# Altium integrated library NSC Interface.IntLib: 1288 symbols (part 30 of 45)
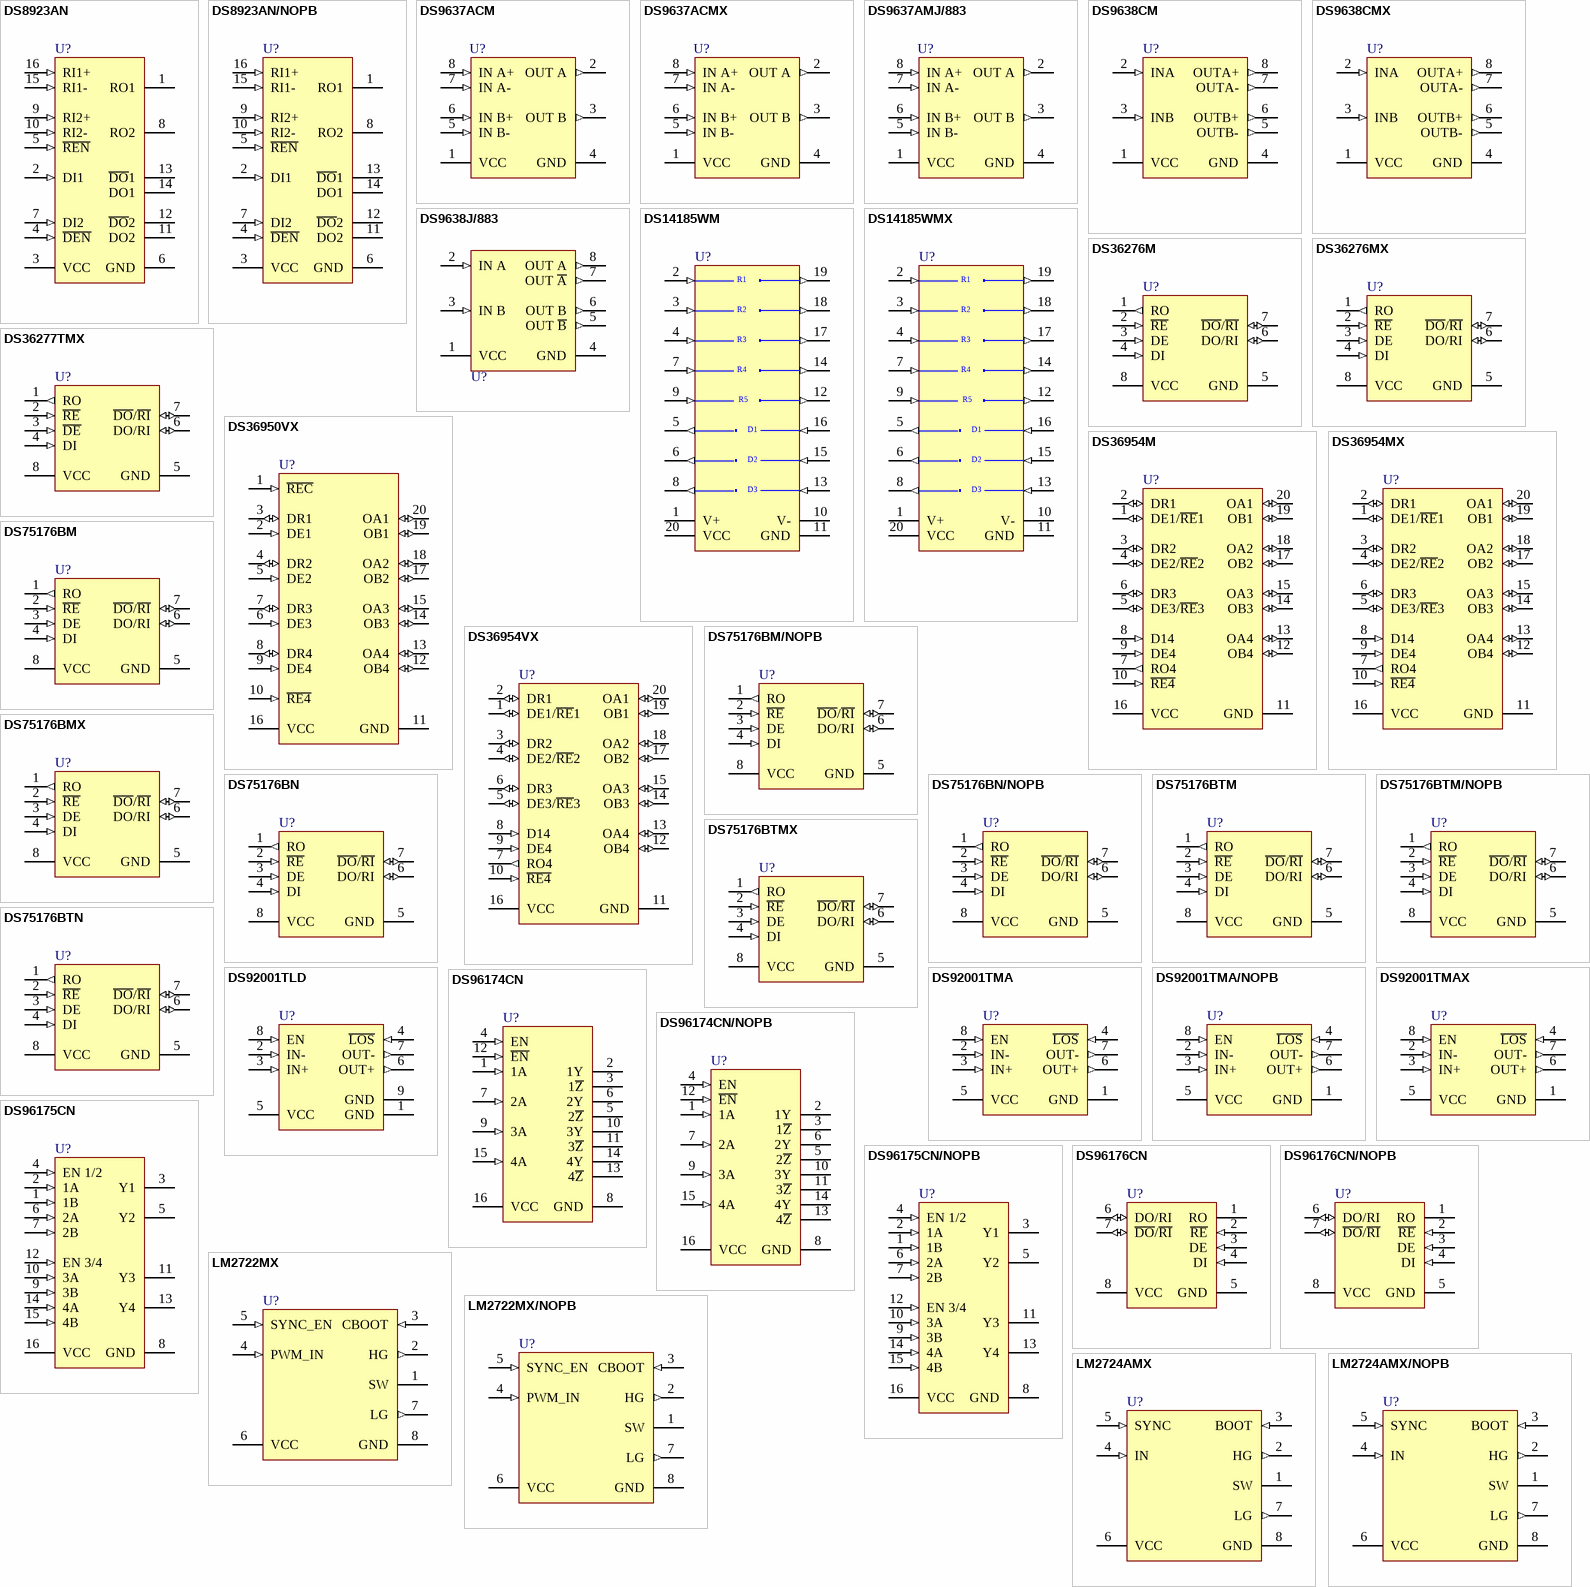
[diagram p141: symbols DS8923AN to LM2724AMX/NOPB]

## DS36954MX
designator U?
Quad Differential Bus Transceiver, 20-pin Wide SOIC; PartNumber: DS36954MX; Manufacturer: National Semiconductor; PackageTopMarking: NSUZXYTTE#*DS36954*M; PowerWise: N; CompType: Interface IC; Published: 1-Mar-2010; DatasheetVersion: Jul-1998; PackageVersion: revG, Jan-1996; PackageReference: M20B; Publisher: Altium Limited; PackageDescription: Molded Package, S0, .300in Wide, 20 Lead; RoHS: N; PinCount: 20; Code_JEDEC: MS-013-AC; Code_IPC: SOIC127P1030-20; ComponentLink1Description: DS36954 Datasheet; ComponentLink1URL: http://www.national.com/ds/DS/DS36954.pdf; ComponentLink2Description: DS36954 Web Page; ComponentLink2URL: http://www.national.com/pf/DS/DS36954.html; ComponentLink3Description: M20B Package Page; ComponentLink3URL: http://www.national.com/packaging/folders/m20b.html
footprint M20B_N (SOIC, 20-Leads, Body 12.8x7.5mm, Pitch 1.27mm, IPC Medium Density)
footprint M20B_L (SOIC, 20-Leads, Body 12.8x7.5mm, Pitch 1.27mm, IPC High Density)
footprint M20B_M (SOIC, 20-Leads, Body 12.8x7.5mm, Pitch 1.27mm, IPC Low Density)
pins: 1 DE1/~{RE}1 (io), 2 DR1 (io), 3 DR2 (io), 4 DE2/~{RE}2 (io), 5 DE3/~{RE}3 (io), 6 DR3 (io), 7 RO4 (out), 8 D14 (in), 9 DE4 (in), 10 ~{RE4} (in), 11 GND (power), 12 OB4 (io), 13 OA4 (io), 14 OB3 (io), 15 OA3 (io), 16 VCC (power), 17 OB2 (io), 18 OA2 (io), 19 OB1 (io), 20 OA1 (io)

## DS36954VX
designator U?
Quad Differential Bus Transceiver, 20-pin PLCC; PartNumber: DS36954VX; Manufacturer: National Semiconductor; PackageTopMarking: NSUZXYTTE#*DS36954V; PowerWise: N; CompType: Interface IC; Published: 4-Dec-2008; DatasheetVersion: Jul-1998; PackageVersion: revL, Dec-1993; PackageReference: V20A; Publisher: Altium Limited; PackageDescription: Plastic Chip Carrier, Sq., .050in Pitch, 20 Lead; RoHS: N; PinCount: 20; Code_JEDEC: MO-047-AA; Code_IPC: PLCC-20; ComponentLink1Description: DS36954 Datasheet; ComponentLink1URL: http://www.national.com/ds/DS/DS36954.pdf; ComponentLink2Description: DS36954 Web Page; ComponentLink2URL: http://www.national.com/pf/DS/DS36954.html; ComponentLink3Description: V20A Package Page; ComponentLink3URL: http://www.national.com/packaging/folders/v20a.html
footprint V20A_N (Leaded Chip Carrier, 20-Leads, Body 9x9mm, Pitch 1.27mm, IPC Medium Density)
footprint V20A_L (Leaded Chip Carrier, 20-Leads, Body 9x9mm, Pitch 1.27mm, IPC High Density)
footprint V20A_M (Leaded Chip Carrier, 20-Leads, Body 9x9mm, Pitch 1.27mm, IPC Low Density)
pins: 1 DE1/~{RE}1 (io), 2 DR1 (io), 3 DR2 (io), 4 DE2/~{RE}2 (io), 5 DE3/~{RE}3 (io), 6 DR3 (io), 7 RO4 (out), 8 D14 (in), 9 DE4 (in), 10 ~{RE4} (in), 11 GND (power), 12 OB4 (io), 13 OA4 (io), 14 OB3 (io), 15 OA3 (io), 16 VCC (power), 17 OB2 (io), 18 OA2 (io), 19 OB1 (io), 20 OA1 (io)

## DS75176BM
designator U?
Multipoint RS-485/RS-422 Transceiver, 8-pin Narrow SOIC; PartNumber: DS75176BM; Manufacturer: National Semiconductor; PackageTopMarking: NSZXTT*DS751*76BM; PowerWise: N; CompType: Interface IC; Published: 4-Dec-2008; DatasheetVersion: Jul-2004; PackageVersion: revM, May-2009; PackageReference: M08A; Publisher: Altium Limited; PackageDescription: SOIC Narrow, 4.9 x 3.9 x 1.45mm, 8 Lead, 1.27mm Pitch; Supplier 1: Farnell; Supplier Part Number 1: 4243894; RoHS: N; PinCount: 8; Code_JEDEC: MS-012-AA; Code_IPC: SOIC127P600-8; ComponentLink1Description: DS75176B Datasheet; ComponentLink1URL: http://www.national.com/ds/DS/DS75176B.pdf; ComponentLink2Description: DS75176B Web Page; ComponentLink2URL: http://www.national.com/pf/DS/DS75176B.html; ComponentLink3Description: M08A Package Page; ComponentLink3URL: http://www.national.com/packaging/folders/m08a.html
footprint M08A_N (SOIC, 8-Leads, Body 4.9x3.9mm, Pitch 1.27mm, IPC Medium Density)
footprint M08A_L (SOIC, 8-Leads, Body 4.9x3.9mm, Pitch 1.27mm, IPC High Density)
footprint M08A_M (SOIC, 8-Leads, Body 4.9x3.9mm, Pitch 1.27mm, IPC Low Density)
pins: 1 RO (out), 2 ~{RE} (in), 3 DE (in), 4 DI (in), 5 GND (power), 6 DO/RI (io), 7 ~{DO}/~{RI} (io), 8 VCC (power)

## DS75176BM/NOPB
designator U?
Multipoint RS-485/RS-422 Transceivers, 8-pin Narrow SOIC, Pb-Free; PartNumber: DS75176BM/NOPB; Manufacturer: National Semiconductor; PackageTopMarking: NSZXTT*DS751*76BM; PowerWise: N; CompType: Interface IC; Published: 1-Mar-2010; DatasheetVersion: Jul-2004; PackageVersion: revM, May-2009; PackageReference: M08A; Publisher: Altium Limited; PackageDescription: SOIC Narrow, 4.9 x 3.9 x 1.45mm, 8 Lead, 1.27mm Pitch; Supplier 1: Digi-Key; Supplier Part Number 1: DS75176BM-ND; Supplier 2: Farnell; Supplier Part Number 2: 1469011; RoHS: Y; PinCount: 8; Code_JEDEC: MS-012-AA; Code_IPC: SOIC127P600-8; ComponentLink1Description: DS75176B Datasheet; ComponentLink1URL: http://www.national.com/ds/DS/DS75176B.pdf; ComponentLink2Description: DS75176B Web Page; ComponentLink2URL: http://www.national.com/pf/DS/DS75176B.html; ComponentLink3Description: M08A Package Page; ComponentLink3URL: http://www.national.com/packaging/folders/m08a.html
footprint M08A_N (SOIC, 8-Leads, Body 4.9x3.9mm, Pitch 1.27mm, IPC Medium Density)
footprint M08A_L (SOIC, 8-Leads, Body 4.9x3.9mm, Pitch 1.27mm, IPC High Density)
footprint M08A_M (SOIC, 8-Leads, Body 4.9x3.9mm, Pitch 1.27mm, IPC Low Density)
pins: 1 RO (out), 2 ~{RE} (in), 3 DE (in), 4 DI (in), 5 GND (power), 6 DO/RI (io), 7 ~{DO}/~{RI} (io), 8 VCC (power)

## DS75176BMX
designator U?
Multipoint RS-485/RS-422 Transceivers, 8-pin Narrow SOIC; PartNumber: DS75176BMX; Manufacturer: National Semiconductor; PackageTopMarking: NSZXTT*DS751*76BM; PowerWise: N; CompType: Interface IC; Published: 1-Mar-2010; DatasheetVersion: Jul-2004; PackageVersion: revM, May-2009; PackageReference: M08A; Publisher: Altium Limited; PackageDescription: SOIC Narrow, 4.9 x 3.9 x 1.45mm, 8 Lead, 1.27mm Pitch; RoHS: N; PinCount: 8; Code_JEDEC: MS-012-AA; Code_IPC: SOIC127P600-8; ComponentLink1Description: DS75176B Datasheet; ComponentLink1URL: http://www.national.com/ds/DS/DS75176B.pdf; ComponentLink2Description: DS75176B Web Page; ComponentLink2URL: http://www.national.com/pf/DS/DS75176B.html; ComponentLink3Description: M08A Package Page; ComponentLink3URL: http://www.national.com/packaging/folders/m08a.html
footprint M08A_N (SOIC, 8-Leads, Body 4.9x3.9mm, Pitch 1.27mm, IPC Medium Density)
footprint M08A_L (SOIC, 8-Leads, Body 4.9x3.9mm, Pitch 1.27mm, IPC High Density)
footprint M08A_M (SOIC, 8-Leads, Body 4.9x3.9mm, Pitch 1.27mm, IPC Low Density)
pins: 1 RO (out), 2 ~{RE} (in), 3 DE (in), 4 DI (in), 5 GND (power), 6 DO/RI (io), 7 ~{DO}/~{RI} (io), 8 VCC (power)

## DS75176BN
designator U?
Multipoint RS-485/RS-422 Transceiver, 8-pin MDIP; PartNumber: DS75176BN; Manufacturer: National Semiconductor; PackageTopMarking: NSUZXYTTE#*DS75176BN; PowerWise: N; CompType: Interface IC; Published: 4-Dec-2008; DatasheetVersion: Jul-2004; PackageVersion: revG, May-2006; PackageReference: N08E; Publisher: Altium Limited; PackageDescription: MDIP, .365 x .250 x .130in, 8 Lead, .100in Pitch; Supplier 1: Farnell; Supplier Part Number 1: 9487190; RoHS: N; PinCount: 8; Code_JEDEC: MS-001-BA; ComponentLink1Description: DS75176B Datasheet; ComponentLink1URL: http://www.national.com/ds/DS/DS75176B.pdf; ComponentLink2Description: DS75176B Web Page; ComponentLink2URL: http://www.national.com/pf/DS/DS75176B.html; ComponentLink3Description: N08E Package Page; ComponentLink3URL: http://www.national.com/packaging/folders/n08e.html
footprint N08E (DIP, 8-Leads, Row Spacing 7.62mm, Pitch 2.54mm, Body 9.91x6.35mm)
pins: 1 RO (out), 2 ~{RE} (in), 3 DE (in), 4 DI (in), 5 GND (power), 6 DO/RI (io), 7 ~{DO}/~{RI} (io), 8 VCC (power)

## DS75176BN/NOPB
designator U?
Multipoint RS-485/RS-422 Transceivers, 8-pin MDIP, Pb-Free; PartNumber: DS75176BN/NOPB; Manufacturer: National Semiconductor; PackageTopMarking: NSUZXYTTE#*DS75176BN; PowerWise: N; CompType: Interface IC; Published: 1-Mar-2010; DatasheetVersion: Jul-2004; PackageVersion: revG, May-2006; PackageReference: N08E; Publisher: Altium Limited; PackageDescription: MDIP, .365 x .250 x .130in, 8 Lead, .100in Pitch; Supplier 1: Digi-Key; Supplier Part Number 1: DS75176BN-ND; Supplier 2: Farnell; Supplier Part Number 2: 1184956; RoHS: Y; PinCount: 8; Code_JEDEC: MS-001-BA; ComponentLink1Description: DS75176B Datasheet; ComponentLink1URL: http://www.national.com/ds/DS/DS75176B.pdf; ComponentLink2Description: DS75176B Web Page; ComponentLink2URL: http://www.national.com/pf/DS/DS75176B.html; ComponentLink3Description: N08E Package Page; ComponentLink3URL: http://www.national.com/packaging/folders/n08e.html
footprint N08E (DIP, 8-Leads, Row Spacing 7.62mm, Pitch 2.54mm, Body 9.91x6.35mm)
pins: 1 RO (out), 2 ~{RE} (in), 3 DE (in), 4 DI (in), 5 GND (power), 6 DO/RI (io), 7 ~{DO}/~{RI} (io), 8 VCC (power)

## DS75176BTM
designator U?
Multipoint RS-485/RS-422 Transceiver, 8-pin Narrow SOIC; PartNumber: DS75176BTM; Manufacturer: National Semiconductor; PackageTopMarking: NSZXTT*DS751*76BTM; PowerWise: N; CompType: Interface IC; Published: 4-Dec-2008; DatasheetVersion: Jul-2004; PackageVersion: revM, May-2009; PackageReference: M08A; Publisher: Altium Limited; PackageDescription: SOIC Narrow, 4.9 x 3.9 x 1.45mm, 8 Lead, 1.27mm Pitch; Supplier 1: Farnell; Supplier Part Number 1: 4465532; RoHS: N; PinCount: 8; Code_JEDEC: MS-012-AA; Code_IPC: SOIC127P600-8; ComponentLink1Description: DS75176BT Datasheet; ComponentLink1URL: http://www.national.com/ds/DS/DS75176BT.pdf; ComponentLink2Description: DS75176BT Web Page; ComponentLink2URL: http://www.national.com/pf/DS/DS75176BT.html; ComponentLink3Description: M08A Package Page; ComponentLink3URL: http://www.national.com/packaging/folders/m08a.html
footprint M08A_N (SOIC, 8-Leads, Body 4.9x3.9mm, Pitch 1.27mm, IPC Medium Density)
footprint M08A_L (SOIC, 8-Leads, Body 4.9x3.9mm, Pitch 1.27mm, IPC High Density)
footprint M08A_M (SOIC, 8-Leads, Body 4.9x3.9mm, Pitch 1.27mm, IPC Low Density)
pins: 1 RO (out), 2 ~{RE} (in), 3 DE (in), 4 DI (in), 5 GND (power), 6 DO/RI (io), 7 ~{DO}/~{RI} (io), 8 VCC (power)

## DS75176BTM/NOPB
designator U?
Multipoint RS-485/RS-422 Transceivers, 8-pin Narrow SOIC, Pb-Free; PartNumber: DS75176BTM/NOPB; Manufacturer: National Semiconductor; PackageTopMarking: NSZXTT*DS751*76BTM; PowerWise: N; CompType: Interface IC; Published: 1-Mar-2010; DatasheetVersion: Jul-2004; PackageVersion: revM, May-2009; PackageReference: M08A; Publisher: Altium Limited; PackageDescription: SOIC Narrow, 4.9 x 3.9 x 1.45mm, 8 Lead, 1.27mm Pitch; Supplier 1: Digi-Key; Supplier Part Number 1: DS75176BTM-ND; Supplier 2: Farnell; Supplier Part Number 2: 1564748; RoHS: Y; PinCount: 8; Code_JEDEC: MS-012-AA; Code_IPC: SOIC127P600-8; ComponentLink1Description: DS75176BT Datasheet; ComponentLink1URL: http://www.national.com/ds/DS/DS75176BT.pdf; ComponentLink2Description: DS75176BT Web Page; ComponentLink2URL: http://www.national.com/pf/DS/DS75176BT.html; ComponentLink3Description: M08A Package Page; ComponentLink3URL: http://www.national.com/packaging/folders/m08a.html
footprint M08A_N (SOIC, 8-Leads, Body 4.9x3.9mm, Pitch 1.27mm, IPC Medium Density)
footprint M08A_L (SOIC, 8-Leads, Body 4.9x3.9mm, Pitch 1.27mm, IPC High Density)
footprint M08A_M (SOIC, 8-Leads, Body 4.9x3.9mm, Pitch 1.27mm, IPC Low Density)
pins: 1 RO (out), 2 ~{RE} (in), 3 DE (in), 4 DI (in), 5 GND (power), 6 DO/RI (io), 7 ~{DO}/~{RI} (io), 8 VCC (power)

## DS75176BTMX
designator U?
Multipoint RS-485/RS-422 Transceivers, 8-pin Narrow SOIC; PartNumber: DS75176BTMX; Manufacturer: National Semiconductor; PackageTopMarking: NSZXTT*DS751*76BTM; PowerWise: N; CompType: Interface IC; Published: 1-Mar-2010; DatasheetVersion: Jul-2004; PackageVersion: revM, May-2009; PackageReference: M08A; Publisher: Altium Limited; PackageDescription: SOIC Narrow, 4.9 x 3.9 x 1.45mm, 8 Lead, 1.27mm Pitch; RoHS: N; PinCount: 8; Code_JEDEC: MS-012-AA; Code_IPC: SOIC127P600-8; ComponentLink1Description: DS75176BT Datasheet; ComponentLink1URL: http://www.national.com/ds/DS/DS75176BT.pdf; ComponentLink2Description: DS75176BT Web Page; ComponentLink2URL: http://www.national.com/pf/DS/DS75176BT.html; ComponentLink3Description: M08A Package Page; ComponentLink3URL: http://www.national.com/packaging/folders/m08a.html
footprint M08A_N (SOIC, 8-Leads, Body 4.9x3.9mm, Pitch 1.27mm, IPC Medium Density)
footprint M08A_L (SOIC, 8-Leads, Body 4.9x3.9mm, Pitch 1.27mm, IPC High Density)
footprint M08A_M (SOIC, 8-Leads, Body 4.9x3.9mm, Pitch 1.27mm, IPC Low Density)
pins: 1 RO (out), 2 ~{RE} (in), 3 DE (in), 4 DI (in), 5 GND (power), 6 DO/RI (io), 7 ~{DO}/~{RI} (io), 8 VCC (power)

## DS75176BTN
designator U?
Multipoint RS-485/RS-422 Transceiver, 8-pin MDIP; PartNumber: DS75176BTN; Manufacturer: National Semiconductor; PackageTopMarking: NSUZXYTTE#*DS75176*BTN; PowerWise: N; CompType: Interface IC; Published: 4-Dec-2008; DatasheetVersion: Jul-2004; PackageVersion: revG, May-2006; PackageReference: N08E; Publisher: Altium Limited; PackageDescription: MDIP, .365 x .250 x .130in, 8 Lead, .100in Pitch; Supplier 1: Farnell; Supplier Part Number 1: 9487204; RoHS: N; PinCount: 8; Code_JEDEC: MS-001-BA; ComponentLink1Description: DS75176BT Datasheet; ComponentLink1URL: http://www.national.com/ds/DS/DS75176BT.pdf; ComponentLink2Description: DS75176BT Web Page; ComponentLink2URL: http://www.national.com/pf/DS/DS75176BT.html; ComponentLink3Description: N08E Package Page; ComponentLink3URL: http://www.national.com/packaging/folders/n08e.html
footprint N08E (DIP, 8-Leads, Row Spacing 7.62mm, Pitch 2.54mm, Body 9.91x6.35mm)
pins: 1 RO (out), 2 ~{RE} (in), 3 DE (in), 4 DI (in), 5 GND (power), 6 DO/RI (io), 7 ~{DO}/~{RI} (io), 8 VCC (power)

## DS92001TLD
designator U?
3.3V B/LVDS-BLVDS Buffer, 8-pin LLP; PartNumber: DS92001TLD; Manufacturer: National Semiconductor; PackageTopMarking: ZXYTT*92001; PowerWise: N; CompType: Interface IC; Published: 4-Dec-2008; DatasheetVersion: Jul-2008; PackageVersion: revC, Nov-2002; PackageReference: LDA08A; Publisher: Altium Limited; PackageDescription: LLP, Plastic, Dual, 3 x 3 x 0.75mm Body, 8 Lead, 0.5mm Pitch; RoHS: N; PinCount: 8; ComponentLink1Description: DS92001 Datasheet; ComponentLink1URL: http://www.national.com/ds/DS/DS92001.pdf; ComponentLink2Description: DS92001 Web Page; ComponentLink2URL: http://www.national.com/pf/DS/DS92001.html; ComponentLink3Description: LDA08A Package Page; ComponentLink3URL: http://www.national.com/packaging/folders/lda08a.html
footprint LDA08A (PSON, 8-Leads, Body 3x3mm, Pitch 0.5mm, NSC Recommended)
pins: 1 GND (power), 2 IN- (in), 3 IN+ (in), 4 ~{LOS} (in), 5 VCC (power), 6 OUT+ (out), 7 OUT- (out), 8 EN (in), 9 GND (power)

## DS92001TMA
designator U?
3.3V B/LVDS-BLVDS Buffer, 8-pin Narrow SOIC; PartNumber: DS92001TMA; Manufacturer: National Semiconductor; PackageTopMarking: NSZXTT*92001*TMA; PowerWise: N; CompType: Interface IC; Published: 4-Dec-2008; DatasheetVersion: Jul-2008; PackageVersion: revM, May-2009; PackageReference: M08A; Publisher: Altium Limited; PackageDescription: SOIC Narrow, 4.9 x 3.9 x 1.45mm, 8 Lead, 1.27mm Pitch; Supplier 1: Farnell; Supplier Part Number 1: 1286832; RoHS: N; PinCount: 8; Code_JEDEC: MS-012-AA; Code_IPC: SOIC127P600-8; ComponentLink1Description: DS92001 Datasheet; ComponentLink1URL: http://www.national.com/ds/DS/DS92001.pdf; ComponentLink2Description: DS92001 Web Page; ComponentLink2URL: http://www.national.com/pf/DS/DS92001.html; ComponentLink3Description: M08A Package Page; ComponentLink3URL: http://www.national.com/packaging/folders/m08a.html
footprint M08A_N (SOIC, 8-Leads, Body 4.9x3.9mm, Pitch 1.27mm, IPC Medium Density)
footprint M08A_L (SOIC, 8-Leads, Body 4.9x3.9mm, Pitch 1.27mm, IPC High Density)
footprint M08A_M (SOIC, 8-Leads, Body 4.9x3.9mm, Pitch 1.27mm, IPC Low Density)
pins: 1 GND (power), 2 IN- (in), 3 IN+ (in), 4 ~{LOS} (in), 5 VCC (power), 6 OUT+ (out), 7 OUT- (out), 8 EN (in)

## DS92001TMA/NOPB
designator U?
3.3V B/LVDS-BLVDS Buffer, 8-pin Narrow SOIC, Pb-Free; PartNumber: DS92001TMA/NOPB; Manufacturer: National Semiconductor; PackageTopMarking: NSZXTT*92001*TMA; PowerWise: N; CompType: Interface IC; Published: 1-Mar-2010; DatasheetVersion: Jul-2008; PackageVersion: revM, May-2009; PackageReference: M08A; Publisher: Altium Limited; PackageDescription: SOIC Narrow, 4.9 x 3.9 x 1.45mm, 8 Lead, 1.27mm Pitch; Supplier 1: Digi-Key; Supplier Part Number 1: DS92001TMA-ND; Supplier 2: Farnell; Supplier Part Number 2: 1685783; RoHS: Y; PinCount: 8; Code_JEDEC: MS-012-AA; Code_IPC: SOIC127P600-8; ComponentLink1Description: DS92001 Datasheet; ComponentLink1URL: http://www.national.com/ds/DS/DS92001.pdf; ComponentLink2Description: DS92001 Web Page; ComponentLink2URL: http://www.national.com/pf/DS/DS92001.html; ComponentLink3Description: M08A Package Page; ComponentLink3URL: http://www.national.com/packaging/folders/m08a.html
footprint M08A_N (SOIC, 8-Leads, Body 4.9x3.9mm, Pitch 1.27mm, IPC Medium Density)
footprint M08A_L (SOIC, 8-Leads, Body 4.9x3.9mm, Pitch 1.27mm, IPC High Density)
footprint M08A_M (SOIC, 8-Leads, Body 4.9x3.9mm, Pitch 1.27mm, IPC Low Density)
pins: 1 GND (power), 2 IN- (in), 3 IN+ (in), 4 ~{LOS} (in), 5 VCC (power), 6 OUT+ (out), 7 OUT- (out), 8 EN (in)

## DS92001TMAX
designator U?
3.3V B/LVDS-BLVDS Buffer, 8-pin Narrow SOIC; PartNumber: DS92001TMAX; Manufacturer: National Semiconductor; PackageTopMarking: NSZXTT*92001*TMA; PowerWise: N; CompType: Interface IC; Published: 1-Mar-2010; DatasheetVersion: Jul-2008; PackageVersion: revM, May-2009; PackageReference: M08A; Publisher: Altium Limited; PackageDescription: SOIC Narrow, 4.9 x 3.9 x 1.45mm, 8 Lead, 1.27mm Pitch; RoHS: N; PinCount: 8; Code_JEDEC: MS-012-AA; Code_IPC: SOIC127P600-8; ComponentLink1Description: DS92001 Datasheet; ComponentLink1URL: http://www.national.com/ds/DS/DS92001.pdf; ComponentLink2Description: DS92001 Web Page; ComponentLink2URL: http://www.national.com/pf/DS/DS92001.html; ComponentLink3Description: M08A Package Page; ComponentLink3URL: http://www.national.com/packaging/folders/m08a.html
footprint M08A_N (SOIC, 8-Leads, Body 4.9x3.9mm, Pitch 1.27mm, IPC Medium Density)
footprint M08A_L (SOIC, 8-Leads, Body 4.9x3.9mm, Pitch 1.27mm, IPC High Density)
footprint M08A_M (SOIC, 8-Leads, Body 4.9x3.9mm, Pitch 1.27mm, IPC Low Density)
pins: 1 GND (power), 2 IN- (in), 3 IN+ (in), 4 ~{LOS} (in), 5 VCC (power), 6 OUT+ (out), 7 OUT- (out), 8 EN (in)

## DS96174CN
designator U?
RS-485/RS-422 Quad Differential Line Driver, 16-pin MDIP; PartNumber: DS96174CN; Manufacturer: National Semiconductor; PackageTopMarking: NSUZXYYTTE#*DS96174CN; PowerWise: N; CompType: Interface IC; Published: 4-Dec-2008; DatasheetVersion: Jun-1998; PackageVersion: revG, May-2006; PackageReference: N16E; Publisher: Altium Limited; PackageDescription: MDIP, .750 x .250 x .130in, 16 Lead, .100in Pitch; Supplier 1: Farnell; Supplier Part Number 1: 9493905; RoHS: N; PinCount: 16; Code_JEDEC: MS-001-BB; ComponentLink1Description: DS96174 Datasheet; ComponentLink1URL: http://www.national.com/ds/DS/DS96174.pdf; ComponentLink2Description: DS96174 Web Page; ComponentLink2URL: http://www.national.com/pf/DS/DS96174.html; ComponentLink3Description: N16E Package Page; ComponentLink3URL: http://www.national.com/packaging/folders/n16e.html
footprint N16E (DIP, 16-Leads, Row Spacing 7.62mm, Pitch 2.54mm, Body 19.3x6.35mm)
pins: 1 1A (in), 2 1Y (hiz), 3 1~{Z} (hiz), 4 EN (in), 5 2~{Z} (hiz), 6 2Y (hiz), 7 2A (in), 8 GND (power), 9 3A (in), 10 3Y (hiz), 11 3~{Z} (hiz), 12 ~{EN} (in), 13 4~{Z} (hiz), 14 4Y (hiz), 15 4A (in), 16 VCC (power)

## DS96174CN/NOPB
designator U?
RS-485/RS-422 Quad Differential Line Drivers, 16-pin MDIP, Pb-Free; PartNumber: DS96174CN/NOPB; Manufacturer: National Semiconductor; PackageTopMarking: NSUZXYYTTE#*DS96174CN; PowerWise: N; CompType: Interface IC; Published: 1-Mar-2010; DatasheetVersion: Jun-1998; PackageVersion: revG, May-2006; PackageReference: N16E; Publisher: Altium Limited; PackageDescription: MDIP, .750 x .250 x .130in, 16 Lead, .100in Pitch; Supplier 1: Digi-Key; Supplier Part Number 1: DS96174CN-ND; Supplier 2: Farnell; Supplier Part Number 2: 1149971; RoHS: Y; PinCount: 16; Code_JEDEC: MS-001-BB; ComponentLink1Description: DS96174 Datasheet; ComponentLink1URL: http://www.national.com/ds/DS/DS96174.pdf; ComponentLink2Description: DS96174 Web Page; ComponentLink2URL: http://www.national.com/pf/DS/DS96174.html; ComponentLink3Description: N16E Package Page; ComponentLink3URL: http://www.national.com/packaging/folders/n16e.html
footprint N16E (DIP, 16-Leads, Row Spacing 7.62mm, Pitch 2.54mm, Body 19.3x6.35mm)
pins: 1 1A (in), 2 1Y (hiz), 3 1~{Z} (hiz), 4 EN (in), 5 2~{Z} (hiz), 6 2Y (hiz), 7 2A (in), 8 GND (power), 9 3A (in), 10 3Y (hiz), 11 3~{Z} (hiz), 12 ~{EN} (in), 13 4~{Z} (hiz), 14 4Y (hiz), 15 4A (in), 16 VCC (power)

## DS96175CN
designator U?
RS-485/RS-422 Quad Differential Line Receiver, 16-pin MDIP; PartNumber: DS96175CN; Manufacturer: National Semiconductor; PackageTopMarking: NSUZXYYTTE#*DS96175CN; PowerWise: N; CompType: Interface IC; Published: 4-Dec-2008; DatasheetVersion: Jun-1998; PackageVersion: revG, May-2006; PackageReference: N16E; Publisher: Altium Limited; PackageDescription: MDIP, .750 x .250 x .130in, 16 Lead, .100in Pitch; Supplier 1: Farnell; Supplier Part Number 1: 1215197; RoHS: N; PinCount: 16; Code_JEDEC: MS-001-BB; ComponentLink1Description: DS96175 Datasheet; ComponentLink1URL: http://www.national.com/ds/DS/DS96175.pdf; ComponentLink2Description: DS96175 Web Page; ComponentLink2URL: http://www.national.com/pf/DS/DS96175.html; ComponentLink3Description: N16E Package Page; ComponentLink3URL: http://www.national.com/packaging/folders/n16e.html
footprint N16E (DIP, 16-Leads, Row Spacing 7.62mm, Pitch 2.54mm, Body 19.3x6.35mm)
pins: 1 1B (in), 2 1A (in), 3 Y1 (hiz), 4 EN 1/2 (in), 5 Y2 (hiz), 6 2A (in), 7 2B (in), 8 GND (power), 9 3B (in), 10 3A (in), 11 Y3 (hiz), 12 EN 3/4 (in), 13 Y4 (hiz), 14 4A (in), 15 4B (in), 16 VCC (power)

## DS96175CN/NOPB
designator U?
RS-485/RS-422 Quad Differential Line Receivers, 16-pin MDIP, Pb-Free; PartNumber: DS96175CN/NOPB; Manufacturer: National Semiconductor; PackageTopMarking: NSUZXYYTTE#*DS96175CN; PowerWise: N; CompType: Interface IC; Published: 1-Mar-2010; DatasheetVersion: Jun-1998; PackageVersion: revG, May-2006; PackageReference: N16E; Publisher: Altium Limited; PackageDescription: MDIP, .750 x .250 x .130in, 16 Lead, .100in Pitch; Supplier 1: Digi-Key; Supplier Part Number 1: DS96175CN-ND; Supplier 2: Farnell; Supplier Part Number 2: 1149972; RoHS: Y; PinCount: 16; Code_JEDEC: MS-001-BB; ComponentLink1Description: DS96175 Datasheet; ComponentLink1URL: http://www.national.com/ds/DS/DS96175.pdf; ComponentLink2Description: DS96175 Web Page; ComponentLink2URL: http://www.national.com/pf/DS/DS96175.html; ComponentLink3Description: N16E Package Page; ComponentLink3URL: http://www.national.com/packaging/folders/n16e.html
footprint N16E (DIP, 16-Leads, Row Spacing 7.62mm, Pitch 2.54mm, Body 19.3x6.35mm)
pins: 1 1B (in), 2 1A (in), 3 Y1 (hiz), 4 EN 1/2 (in), 5 Y2 (hiz), 6 2A (in), 7 2B (in), 8 GND (power), 9 3B (in), 10 3A (in), 11 Y3 (hiz), 12 EN 3/4 (in), 13 Y4 (hiz), 14 4A (in), 15 4B (in), 16 VCC (power)

## DS96176CN
designator U?
RS-485/RS-422 Differential Bus Transceiver, 8-pin MDIP; PartNumber: DS96176CN; Manufacturer: National Semiconductor; PackageTopMarking: NSUZXYTTE#*DS96176CN; PowerWise: N; CompType: Interface IC; Published: 4-Dec-2008; DatasheetVersion: May-1998; PackageVersion: revG, May-2006; PackageReference: N08E; Publisher: Altium Limited; PackageDescription: MDIP, .365 x .250 x .130in, 8 Lead, .100in Pitch; RoHS: N; PinCount: 8; Code_JEDEC: MS-001-BA; ComponentLink1Description: DS96176 Datasheet; ComponentLink1URL: http://www.national.com/ds/DS/DS96176.pdf; ComponentLink2Description: DS96176 Web Page; ComponentLink2URL: http://www.national.com/pf/DS/DS96176.html; ComponentLink3Description: N08E Package Page; ComponentLink3URL: http://www.national.com/packaging/folders/n08e.html
footprint N08E (DIP, 8-Leads, Row Spacing 7.62mm, Pitch 2.54mm, Body 9.91x6.35mm)
pins: 1 RO (hiz), 2 ~{RE} (in), 3 DE (in), 4 DI (in), 5 GND (power), 6 DO/RI (io), 7 ~{DO}/~{RI} (io), 8 VCC (power)

## DS96176CN/NOPB
designator U?
RS-485/RS-422 Differential Bus Transceiver, 8-pin MDIP, Pb-Free; PartNumber: DS96176CN/NOPB; Manufacturer: National Semiconductor; PackageTopMarking: NSUZXYTTE#*DS96176CN; PowerWise: N; CompType: Interface IC; Published: 1-Mar-2010; DatasheetVersion: May-1998; PackageVersion: revG, May-2006; PackageReference: N08E; Publisher: Altium Limited; PackageDescription: MDIP, .365 x .250 x .130in, 8 Lead, .100in Pitch; Supplier 1: Digi-Key; Supplier Part Number 1: DS96176CN-ND; Supplier 2: Farnell; Supplier Part Number 2: 1685483; RoHS: Y; PinCount: 8; Code_JEDEC: MS-001-BA; ComponentLink1Description: DS96176 Datasheet; ComponentLink1URL: http://www.national.com/ds/DS/DS96176.pdf; ComponentLink2Description: DS96176 Web Page; ComponentLink2URL: http://www.national.com/pf/DS/DS96176.html; ComponentLink3Description: N08E Package Page; ComponentLink3URL: http://www.national.com/packaging/folders/n08e.html
footprint N08E (DIP, 8-Leads, Row Spacing 7.62mm, Pitch 2.54mm, Body 9.91x6.35mm)
pins: 1 RO (hiz), 2 ~{RE} (in), 3 DE (in), 4 DI (in), 5 GND (power), 6 DO/RI (io), 7 ~{DO}/~{RI} (io), 8 VCC (power)

## LM2722MX
designator U?
High Speed Synchronous/Asynchronous MOSFET Driver, 8 pin SOIC NARROW; PartNumber: LM2722MX; Manufacturer: National Semiconductor; PackageTopMarking: NSZXTT*2722*M; PowerWise: N; CompType: Interface IC; Published: 16-Nov-2010; DatasheetVersion: Dec-2008; PackageVersion: revM, May-2009; PackageReference: M08A; Publisher: Altium Limited; PackageDescription: SOIC Narrow, 4.9 x 3.9 x 1.45mm, 8 Lead, 1.27mm Pitch; RoHS: N; PinCount: 8; Code_JEDEC: MS-012-AA; Code_IPC: SOIC127P600-8; ComponentLink1Description: LM2722 Datasheet; ComponentLink1URL: http://www.national.com/ds/LM/LM2722.pdf; ComponentLink2Description: LM2722 Web Page; ComponentLink2URL: http://www.national.com/pf/LM/LM2722.html; ComponentLink3Description: M08A Package Page; ComponentLink3URL: http://www.national.com/packaging/folders/m08a.html
footprint M08A_N (SOIC, 8-Leads, Body 4.9x3.9mm, Pitch 1.27mm, IPC Medium Density)
footprint M08A_L (SOIC, 8-Leads, Body 4.9x3.9mm, Pitch 1.27mm, IPC High Density)
footprint M08A_M (SOIC, 8-Leads, Body 4.9x3.9mm, Pitch 1.27mm, IPC Low Density)
pins: 1 SW (power), 2 HG (out), 3 CBOOT (in), 4 PWM_IN (in), 5 SYNC_EN (in), 6 VCC (power), 7 LG (out), 8 GND (power)

## LM2722MX/NOPB
designator U?
High Speed Synchronous/Asynchronous MOSFET Driver, 8 pin SOIC NARROW; PartNumber: LM2722MX/NOPB; Manufacturer: National Semiconductor; PackageTopMarking: NSZXTT*2722*M; PowerWise: N; CompType: Interface IC; Published: 16-Nov-2010; DatasheetVersion: Dec-2008; PackageVersion: revM, May-2009; PackageReference: M08A; Publisher: Altium Limited; PackageDescription: SOIC Narrow, 4.9 x 3.9 x 1.45mm, 8 Lead, 1.27mm Pitch; RoHS: Y; PinCount: 8; Code_JEDEC: MS-012-AA; Code_IPC: SOIC127P600-8; ComponentLink1Description: LM2722 Datasheet; ComponentLink1URL: http://www.national.com/ds/LM/LM2722.pdf; ComponentLink2Description: LM2722 Web Page; ComponentLink2URL: http://www.national.com/pf/LM/LM2722.html; ComponentLink3Description: M08A Package Page; ComponentLink3URL: http://www.national.com/packaging/folders/m08a.html
footprint M08A_N (SOIC, 8-Leads, Body 4.9x3.9mm, Pitch 1.27mm, IPC Medium Density)
footprint M08A_L (SOIC, 8-Leads, Body 4.9x3.9mm, Pitch 1.27mm, IPC High Density)
footprint M08A_M (SOIC, 8-Leads, Body 4.9x3.9mm, Pitch 1.27mm, IPC Low Density)
pins: 1 SW (power), 2 HG (out), 3 CBOOT (in), 4 PWM_IN (in), 5 SYNC_EN (in), 6 VCC (power), 7 LG (out), 8 GND (power)

## LM2724AMX
designator U?
High Speed 3A Synchronous MOSFET Driver, 8 pin SOIC NARROW; PartNumber: LM2724AMX; Manufacturer: National Semiconductor; PackageTopMarking: NSZXTT*2724*AM; PowerWise: N; CompType: Interface IC; Published: 16-Nov-2010; DatasheetVersion: Jun-2003; PackageVersion: revM, May-2009; PackageReference: M08A; Publisher: Altium Limited; PackageDescription: SOIC Narrow, 4.9 x 3.9 x 1.45mm, 8 Lead, 1.27mm Pitch; RoHS: N; PinCount: 8; Code_JEDEC: MS-012-AA; Code_IPC: SOIC127P600-8; ComponentLink1Description: LM2724A Datasheet; ComponentLink1URL: http://www.national.com/ds/LM/LM2724A.pdf; ComponentLink2Description: LM2724A Web Page; ComponentLink2URL: http://www.national.com/pf/LM/LM2724A.html; ComponentLink3Description: M08A Package Page; ComponentLink3URL: http://www.national.com/packaging/folders/m08a.html
footprint M08A_N (SOIC, 8-Leads, Body 4.9x3.9mm, Pitch 1.27mm, IPC Medium Density)
footprint M08A_L (SOIC, 8-Leads, Body 4.9x3.9mm, Pitch 1.27mm, IPC High Density)
footprint M08A_M (SOIC, 8-Leads, Body 4.9x3.9mm, Pitch 1.27mm, IPC Low Density)
pins: 1 SW (power), 2 HG (out), 3 BOOT (in), 4 IN (in), 5 SYNC (in), 6 VCC (power), 7 LG (out), 8 GND (power)

## LM2724AMX/NOPB
designator U?
High Speed 3A Synchronous MOSFET Driver, 8 pin SOIC NARROW; PartNumber: LM2724AMX/NOPB; Manufacturer: National Semiconductor; PackageTopMarking: NSZXTT*2724*AM; PowerWise: N; CompType: Interface IC; Published: 16-Nov-2010; DatasheetVersion: Jun-2003; PackageVersion: revM, May-2009; PackageReference: M08A; Publisher: Altium Limited; PackageDescription: SOIC Narrow, 4.9 x 3.9 x 1.45mm, 8 Lead, 1.27mm Pitch; RoHS: Y; PinCount: 8; Code_JEDEC: MS-012-AA; Code_IPC: SOIC127P600-8; ComponentLink1Description: LM2724A Datasheet; ComponentLink1URL: http://www.national.com/ds/LM/LM2724A.pdf; ComponentLink2Description: LM2724A Web Page; ComponentLink2URL: http://www.national.com/pf/LM/LM2724A.html; ComponentLink3Description: M08A Package Page; ComponentLink3URL: http://www.national.com/packaging/folders/m08a.html
footprint M08A_N (SOIC, 8-Leads, Body 4.9x3.9mm, Pitch 1.27mm, IPC Medium Density)
footprint M08A_L (SOIC, 8-Leads, Body 4.9x3.9mm, Pitch 1.27mm, IPC High Density)
footprint M08A_M (SOIC, 8-Leads, Body 4.9x3.9mm, Pitch 1.27mm, IPC Low Density)
pins: 1 SW (power), 2 HG (out), 3 BOOT (in), 4 IN (in), 5 SYNC (in), 6 VCC (power), 7 LG (out), 8 GND (power)

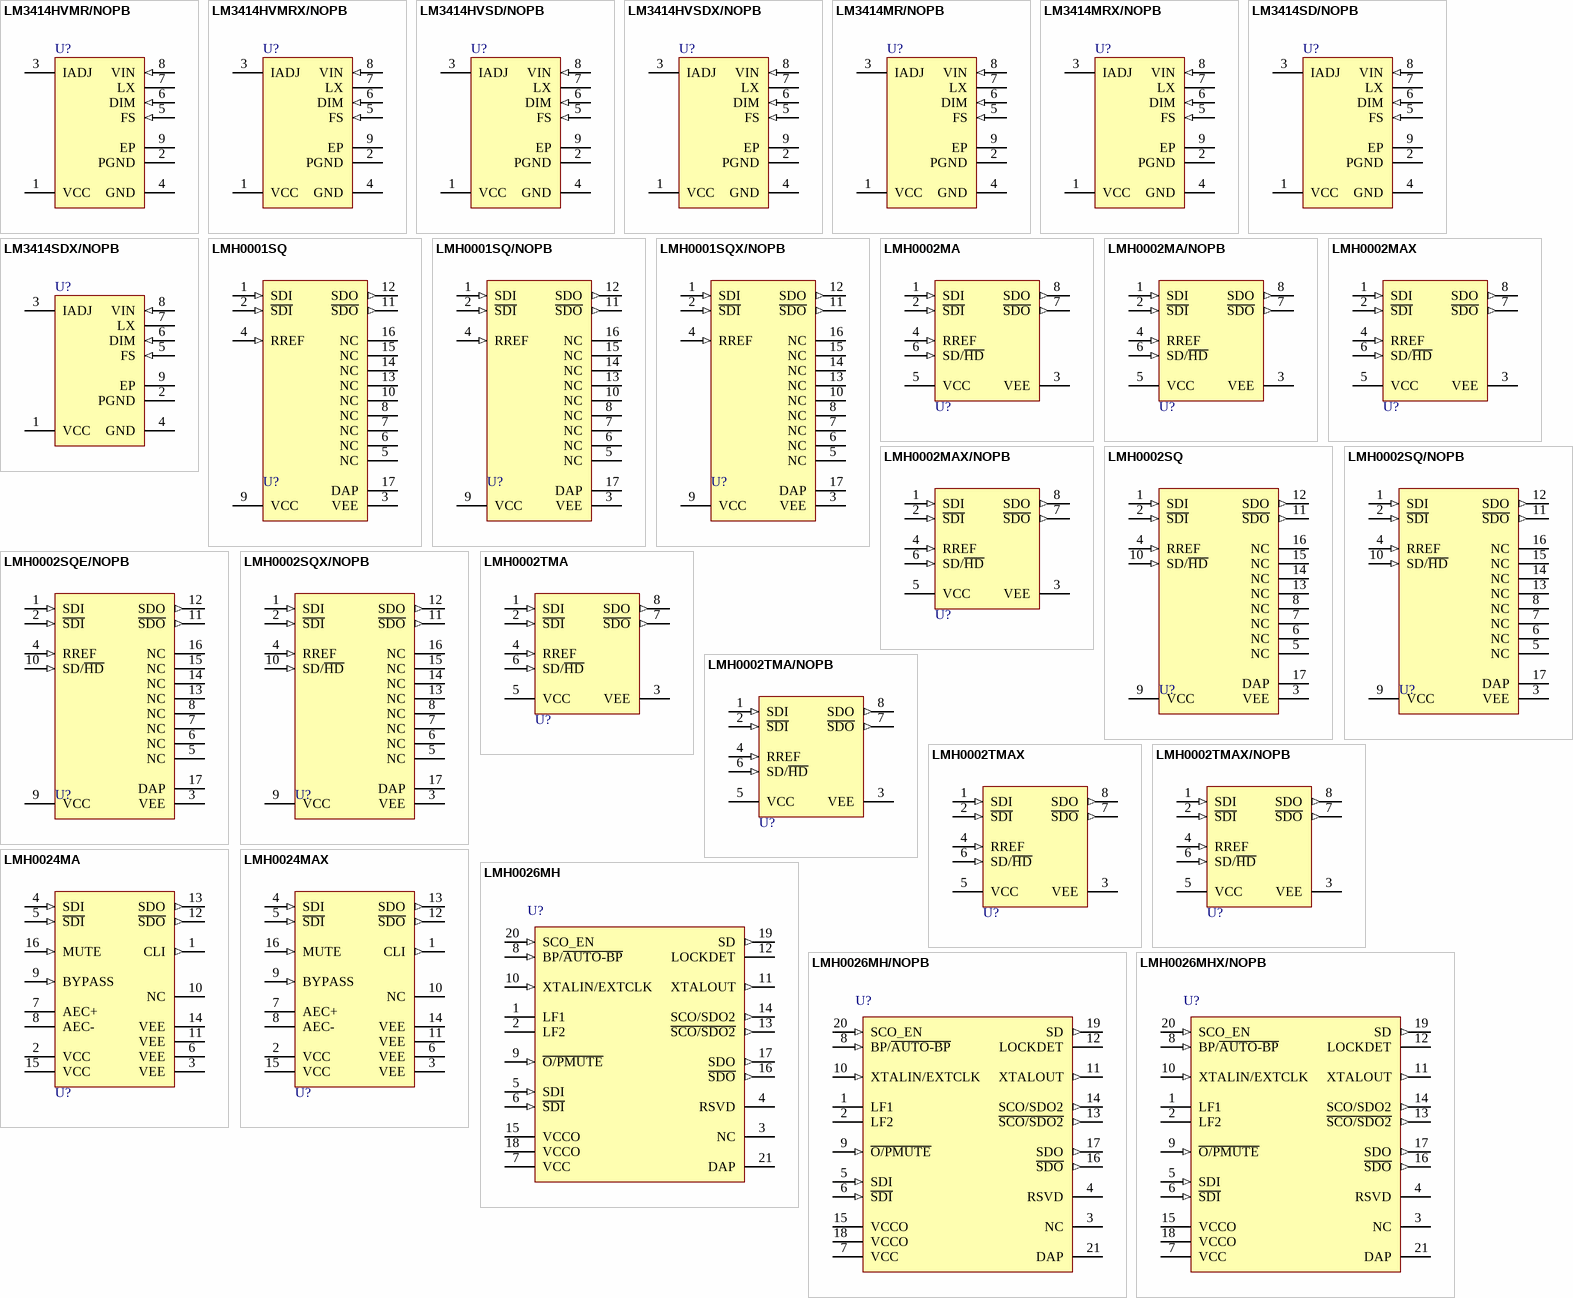
[diagram p76: symbols LM3414HVMR/NOPB to LMH0026MHX/NOPB]

## LM3414HVMR/NOPB
designator U?
1A 60W Common Anode Capable Constant Current Buck LED Driver Requires No External Current Sensing Resistor, 8 pin PSOP; PartNumber: LM3414HVMR/NOPB; Manufacturer: National Semiconductor; PackageTopMarking: NSXYTT*L3414*HVMR; PowerWise: Y; CompType: Interface IC; Published: 16-Nov-2010; DatasheetVersion: Aug-2010; PackageVersion: revD, Dec-2007; PackageReference: MRA08A; Publisher: Altium Limited; PackageDescription: Molded, PSOP .193 x .154 x .058in, 8 Lead, .050in Pitch; Supplier 1: Digi-Key; Supplier Part Number 1: LM3414HVMR/NOPB-ND; RoHS: Y; PinCount: 8; Code_JEDEC: MS-012-AA; ComponentLink1Description: LM3414HV Datasheet; ComponentLink1URL: http://www.national.com/ds/LM/LM3414HV.pdf; ComponentLink2Description: LM3414HV Web Page; ComponentLink2URL: http://www.national.com/pf/LM/LM3414HV.html; ComponentLink3Description: MRA08A Package Page; ComponentLink3URL: http://www.national.com/packaging/folders/mra08a.html
footprint MRA08A_N (SOIC, 8-Leads, Body 4.9x3.9mm, Pitch 1.27mm, Exposed Pad, IPC Medium Density)
footprint MRA08A_L (SOIC, 8-Leads, Body 4.9x3.9mm, Pitch 1.27mm, Exposed Pad, IPC High Density)
footprint MRA08A_M (SOIC, 8-Leads, Body 4.9x3.9mm, Pitch 1.27mm, Exposed Pad, IPC Low Density)
pins: 1 VCC, 2 PGND (power), 3 IADJ, 4 GND (power), 5 FS (in), 6 DIM (in), 7 LX, 8 VIN (in), 9 EP (power)

## LM3414HVMRX/NOPB
designator U?
1A 60W Common Anode Capable Constant Current Buck LED Driver Requires No External Current Sensing Resistor, 8 pin PSOP; PartNumber: LM3414HVMRX/NOPB; Manufacturer: National Semiconductor; PackageTopMarking: NSXYTT*L3414*HVMR; PowerWise: Y; CompType: Interface IC; Published: 16-Nov-2010; DatasheetVersion: Aug-2010; PackageVersion: revD, Dec-2007; PackageReference: MRA08A; Publisher: Altium Limited; PackageDescription: Molded, PSOP .193 x .154 x .058in, 8 Lead, .050in Pitch; Supplier 1: Digi-Key; Supplier Part Number 1: LM3414HVMRX/NOPB-ND; RoHS: Y; PinCount: 8; Code_JEDEC: MS-012-AA; ComponentLink1Description: LM3414HV Datasheet; ComponentLink1URL: http://www.national.com/ds/LM/LM3414HV.pdf; ComponentLink2Description: LM3414HV Web Page; ComponentLink2URL: http://www.national.com/pf/LM/LM3414HV.html; ComponentLink3Description: MRA08A Package Page; ComponentLink3URL: http://www.national.com/packaging/folders/mra08a.html
footprint MRA08A_N (SOIC, 8-Leads, Body 4.9x3.9mm, Pitch 1.27mm, Exposed Pad, IPC Medium Density)
footprint MRA08A_L (SOIC, 8-Leads, Body 4.9x3.9mm, Pitch 1.27mm, Exposed Pad, IPC High Density)
footprint MRA08A_M (SOIC, 8-Leads, Body 4.9x3.9mm, Pitch 1.27mm, Exposed Pad, IPC Low Density)
pins: 1 VCC, 2 PGND (power), 3 IADJ, 4 GND (power), 5 FS (in), 6 DIM (in), 7 LX, 8 VIN (in), 9 EP (power)

## LM3414HVSD/NOPB
designator U?
1A 60W Common Anode Capable Constant Current Buck LED Driver Requires No External Current Sensing Resistor, 8 pin LLP; PartNumber: LM3414HVSD/NOPB; Manufacturer: National Semiconductor; PackageTopMarking: ZXYTT*L249B; PowerWise: Y; CompType: Interface IC; Published: 16-Nov-2010; DatasheetVersion: Aug-2010; PackageVersion: revA, Aug-2003; PackageReference: SDA08A; Publisher: Altium Limited; PackageDescription: LLP, Plastic, Dual, 3 x 3 x 0.8mm Body, 8 Lead, 0.5mm Pitch, No Pullback; Supplier 1: Digi-Key; Supplier Part Number 1: LM3414HVSD/NOPBTR-ND; Supplier 2: Digi-Key; Supplier Part Number 2: LM3414HVSD/NOPBCT-ND; Supplier 3: Digi-Key; Supplier Part Number 3: LM3414HVSD/NOPBDKR-ND; RoHS: Y; PinCount: 8; ComponentLink1Description: LM3414HV Datasheet; ComponentLink1URL: http://www.national.com/ds/LM/LM3414HV.pdf; ComponentLink2Description: LM3414HV Web Page; ComponentLink2URL: http://www.national.com/pf/LM/LM3414HV.html; ComponentLink3Description: SDA08A Package Page; ComponentLink3URL: http://www.national.com/packaging/folders/sda08a.html
footprint SDA08A (SON, 8-Leads, Body 3x3mm, Pitch 0.5mm, NSC Recommended)
pins: 1 VCC, 2 PGND (power), 3 IADJ, 4 GND (power), 5 FS (in), 6 DIM (in), 7 LX, 8 VIN (in), 9 EP (power)

## LM3414HVSDX/NOPB
designator U?
1A 60W Common Anode Capable Constant Current Buck LED Driver Requires No External Current Sensing Resistor, 8 pin LLP; PartNumber: LM3414HVSDX/NOPB; Manufacturer: National Semiconductor; PackageTopMarking: ZXYTT*L249B; PowerWise: Y; CompType: Interface IC; Published: 16-Nov-2010; DatasheetVersion: Aug-2010; PackageVersion: revA, Aug-2003; PackageReference: SDA08A; Publisher: Altium Limited; PackageDescription: LLP, Plastic, Dual, 3 x 3 x 0.8mm Body, 8 Lead, 0.5mm Pitch, No Pullback; Supplier 1: Digi-Key; Supplier Part Number 1: LM3414HVSDX/NOPB-ND; RoHS: Y; PinCount: 8; ComponentLink1Description: LM3414HV Datasheet; ComponentLink1URL: http://www.national.com/ds/LM/LM3414HV.pdf; ComponentLink2Description: LM3414HV Web Page; ComponentLink2URL: http://www.national.com/pf/LM/LM3414HV.html; ComponentLink3Description: SDA08A Package Page; ComponentLink3URL: http://www.national.com/packaging/folders/sda08a.html
footprint SDA08A (SON, 8-Leads, Body 3x3mm, Pitch 0.5mm, NSC Recommended)
pins: 1 VCC, 2 PGND (power), 3 IADJ, 4 GND (power), 5 FS (in), 6 DIM (in), 7 LX, 8 VIN (in), 9 EP (power)

## LM3414MR/NOPB
designator U?
1A 60W Common Anode Capable Constant Current Buck LED Driver Requires No External Current Sensing Resistor, 8 pin PSOP; PartNumber: LM3414MR/NOPB; Manufacturer: National Semiconductor; PackageTopMarking: NSXYTT*L3414*MR; PowerWise: Y; CompType: Interface IC; Published: 16-Nov-2010; DatasheetVersion: Aug-2010; PackageVersion: revD, Dec-2007; PackageReference: MRA08A; Publisher: Altium Limited; PackageDescription: Molded, PSOP .193 x .154 x .058in, 8 Lead, .050in Pitch; Supplier 1: Digi-Key; Supplier Part Number 1: LM3414MR/NOPB-ND; RoHS: Y; PinCount: 8; Code_JEDEC: MS-012-AA; ComponentLink1Description: LM3414 Datasheet; ComponentLink1URL: http://www.national.com/ds/LM/LM3414VH.pdf; ComponentLink2Description: LM3414 Web Page; ComponentLink2URL: http://www.national.com/pf/LM/LM3414.html; ComponentLink3Description: MRA08A Package Page; ComponentLink3URL: http://www.national.com/packaging/folders/mra08a.html
footprint MRA08A_N (SOIC, 8-Leads, Body 4.9x3.9mm, Pitch 1.27mm, Exposed Pad, IPC Medium Density)
footprint MRA08A_L (SOIC, 8-Leads, Body 4.9x3.9mm, Pitch 1.27mm, Exposed Pad, IPC High Density)
footprint MRA08A_M (SOIC, 8-Leads, Body 4.9x3.9mm, Pitch 1.27mm, Exposed Pad, IPC Low Density)
pins: 1 VCC, 2 PGND (power), 3 IADJ, 4 GND (power), 5 FS (in), 6 DIM (in), 7 LX, 8 VIN (in), 9 EP (power)

## LM3414MRX/NOPB
designator U?
1A 60W Common Anode Capable Constant Current Buck LED Driver Requires No External Current Sensing Resistor, 8 pin PSOP; PartNumber: LM3414MRX/NOPB; Manufacturer: National Semiconductor; PackageTopMarking: NSXYTT*L3414*MR; PowerWise: Y; CompType: Interface IC; Published: 16-Nov-2010; DatasheetVersion: Aug-2010; PackageVersion: revD, Dec-2007; PackageReference: MRA08A; Publisher: Altium Limited; PackageDescription: Molded, PSOP .193 x .154 x .058in, 8 Lead, .050in Pitch; Supplier 1: Digi-Key; Supplier Part Number 1: LM3414MRX/NOPB-ND; RoHS: Y; PinCount: 8; Code_JEDEC: MS-012-AA; ComponentLink1Description: LM3414 Datasheet; ComponentLink1URL: http://www.national.com/ds/LM/LM3414VH.pdf; ComponentLink2Description: LM3414 Web Page; ComponentLink2URL: http://www.national.com/pf/LM/LM3414.html; ComponentLink3Description: MRA08A Package Page; ComponentLink3URL: http://www.national.com/packaging/folders/mra08a.html
footprint MRA08A_N (SOIC, 8-Leads, Body 4.9x3.9mm, Pitch 1.27mm, Exposed Pad, IPC Medium Density)
footprint MRA08A_L (SOIC, 8-Leads, Body 4.9x3.9mm, Pitch 1.27mm, Exposed Pad, IPC High Density)
footprint MRA08A_M (SOIC, 8-Leads, Body 4.9x3.9mm, Pitch 1.27mm, Exposed Pad, IPC Low Density)
pins: 1 VCC, 2 PGND (power), 3 IADJ, 4 GND (power), 5 FS (in), 6 DIM (in), 7 LX, 8 VIN (in), 9 EP (power)

## LM3414SD/NOPB
designator U?
1A 60W Common Anode Capable Constant Current Buck LED Driver Requires No External Current Sensing Resistor, 8 pin LLP; PartNumber: LM3414SD/NOPB; Manufacturer: National Semiconductor; PackageTopMarking: ZXYTT*L248B; PowerWise: Y; CompType: Interface IC; Published: 16-Nov-2010; DatasheetVersion: Aug-2010; PackageVersion: revA, Aug-2003; PackageReference: SDA08A; Publisher: Altium Limited; PackageDescription: LLP, Plastic, Dual, 3 x 3 x 0.8mm Body, 8 Lead, 0.5mm Pitch, No Pullback; Supplier 1: Digi-Key; Supplier Part Number 1: LM3414SD/NOPBTR-ND; Supplier 2: Digi-Key; Supplier Part Number 2: LM3414SD/NOPBCT-ND; Supplier 3: Digi-Key; Supplier Part Number 3: LM3414SD/NOPBDKR-ND; RoHS: Y; PinCount: 8; ComponentLink1Description: LM3414 Datasheet; ComponentLink1URL: http://www.national.com/ds/LM/LM3414VH.pdf; ComponentLink2Description: LM3414 Web Page; ComponentLink2URL: http://www.national.com/pf/LM/LM3414.html; ComponentLink3Description: SDA08A Package Page; ComponentLink3URL: http://www.national.com/packaging/folders/sda08a.html
footprint SDA08A (SON, 8-Leads, Body 3x3mm, Pitch 0.5mm, NSC Recommended)
pins: 1 VCC, 2 PGND (power), 3 IADJ, 4 GND (power), 5 FS (in), 6 DIM (in), 7 LX, 8 VIN (in), 9 EP (power)

## LM3414SDX/NOPB
designator U?
1A 60W Common Anode Capable Constant Current Buck LED Driver Requires No External Current Sensing Resistor, 8 pin LLP; PartNumber: LM3414SDX/NOPB; Manufacturer: National Semiconductor; PackageTopMarking: ZXYTT*L248B; PowerWise: Y; CompType: Interface IC; Published: 16-Nov-2010; DatasheetVersion: Aug-2010; PackageVersion: revA, Aug-2003; PackageReference: SDA08A; Publisher: Altium Limited; PackageDescription: LLP, Plastic, Dual, 3 x 3 x 0.8mm Body, 8 Lead, 0.5mm Pitch, No Pullback; Supplier 1: Digi-Key; Supplier Part Number 1: LM3414SDX/NOPB-ND; RoHS: Y; PinCount: 8; ComponentLink1Description: LM3414 Datasheet; ComponentLink1URL: http://www.national.com/ds/LM/LM3414VH.pdf; ComponentLink2Description: LM3414 Web Page; ComponentLink2URL: http://www.national.com/pf/LM/LM3414.html; ComponentLink3Description: SDA08A Package Page; ComponentLink3URL: http://www.national.com/packaging/folders/sda08a.html
footprint SDA08A (SON, 8-Leads, Body 3x3mm, Pitch 0.5mm, NSC Recommended)
pins: 1 VCC, 2 PGND (power), 3 IADJ, 4 GND (power), 5 FS (in), 6 DIM (in), 7 LX, 8 VIN (in), 9 EP (power)

## LMH0001SQ
designator U?
SMPTE 259M / 344M Serial Digital Cable Driver, 16-pin LLP; PartNumber: LMH0001SQ; Manufacturer: National Semiconductor; PackageTopMarking: NS*UZXYTT*L001; PowerWise: N; CompType: Interface IC; Published: 4-Dec-2008; DatasheetVersion: Jan-2008; PackageVersion: revA, Dec-2005; PackageReference: SQB16A; Publisher: Altium Limited; PackageDescription: LLP, Plastic, Quad, 4 x 4 x 0.8mm, 16 Lead, 0.65mm Pitch, No Pullback; RoHS: Y; PinCount: 16; ComponentLink1Description: LMH0001 Datasheet; ComponentLink1URL: http://www.national.com/ds/LM/LMH0001.pdf; ComponentLink2Description: LMH0001 Web Page; ComponentLink2URL: http://www.national.com/pf/LM/LMH0001.html; ComponentLink3Description: SQB16A Package Page; ComponentLink3URL: http://www.national.com/packaging/folders/sqb16a.html
footprint SQB16A (QFN, 16-Leads, Body 4x4mm, Pitch 0.65mm, NSC Recommended)
pins: 1 SDI (in), 2 ~{SDI} (in), 3 VEE (power), 4 RREF (in), 5 NC, 6 NC, 7 NC, 8 NC, 9 VCC (power), 10 NC, 11 ~{SDO} (out), 12 SDO (out), 13 NC, 14 NC, 15 NC, 16 NC, 17 DAP (power)

## LMH0001SQ/NOPB
designator U?
SMPTE 259M / 344M Serial Digital Cable Driver, 16-pin LLP, Pb-Free; PartNumber: LMH0001SQ/NOPB; Manufacturer: National Semiconductor; PackageTopMarking: NS*UZXYTT*L001; PowerWise: N; CompType: Interface IC; Published: 1-Mar-2010; DatasheetVersion: Jan-2008; PackageVersion: revA, Dec-2005; PackageReference: SQB16A; Publisher: Altium Limited; PackageDescription: LLP, Plastic, Quad, 4 x 4 x 0.8mm, 16 Lead, 0.65mm Pitch, No Pullback; Supplier 1: Digi-Key; Supplier Part Number 1: LMH0001SQ-ND; RoHS: Y; PinCount: 16; ComponentLink1Description: LMH0001 Datasheet; ComponentLink1URL: http://www.national.com/ds/LM/LMH0001.pdf; ComponentLink2Description: LMH0001 Web Page; ComponentLink2URL: http://www.national.com/pf/LM/LMH0001.html; ComponentLink3Description: SQB16A Package Page; ComponentLink3URL: http://www.national.com/packaging/folders/sqb16a.html
footprint SQB16A (QFN, 16-Leads, Body 4x4mm, Pitch 0.65mm, NSC Recommended)
pins: 1 SDI (in), 2 ~{SDI} (in), 3 VEE (power), 4 RREF (in), 5 NC, 6 NC, 7 NC, 8 NC, 9 VCC (power), 10 NC, 11 ~{SDO} (out), 12 SDO (out), 13 NC, 14 NC, 15 NC, 16 NC, 17 DAP (power)

## LMH0001SQX/NOPB
designator U?
SMPTE 259M / 344M Serial Digital Cable Driver, 16-pin LLP, Pb-Free; PartNumber: LMH0001SQX/NOPB; Manufacturer: National Semiconductor; PackageTopMarking: NS*UZXYTT*L001; PowerWise: N; CompType: Interface IC; Published: 1-Mar-2010; DatasheetVersion: Jan-2008; PackageVersion: revA, Dec-2005; PackageReference: SQB16A; Publisher: Altium Limited; PackageDescription: LLP, Plastic, Quad, 4 x 4 x 0.8mm, 16 Lead, 0.65mm Pitch, No Pullback; Supplier 1: Digi-Key; Supplier Part Number 1: LMH0001SQX-ND; RoHS: Y; PinCount: 16; ComponentLink1Description: LMH0001 Datasheet; ComponentLink1URL: http://www.national.com/ds/LM/LMH0001.pdf; ComponentLink2Description: LMH0001 Web Page; ComponentLink2URL: http://www.national.com/pf/LM/LMH0001.html; ComponentLink3Description: SQB16A Package Page; ComponentLink3URL: http://www.national.com/packaging/folders/sqb16a.html
footprint SQB16A (QFN, 16-Leads, Body 4x4mm, Pitch 0.65mm, NSC Recommended)
pins: 1 SDI (in), 2 ~{SDI} (in), 3 VEE (power), 4 RREF (in), 5 NC, 6 NC, 7 NC, 8 NC, 9 VCC (power), 10 NC, 11 ~{SDO} (out), 12 SDO (out), 13 NC, 14 NC, 15 NC, 16 NC, 17 DAP (power)

## LMH0002MA
designator U?
SMPTE 292M / 259M Serial Digital Cable Driver, 8-pin Narrow SOIC; PartNumber: LMH0002MA; Manufacturer: National Semiconductor; PackageTopMarking: NSZXTT*L002; PowerWise: N; CompType: Interface IC; Published: 4-Dec-2008; DatasheetVersion: Aug-2008; PackageVersion: revM, May-2009; PackageReference: M08A; Publisher: Altium Limited; PackageDescription: SOIC Narrow, 4.9 x 3.9 x 1.45mm, 8 Lead, 1.27mm Pitch; Supplier 1: Farnell; Supplier Part Number 1: 1286771; RoHS: N; PinCount: 8; Code_JEDEC: MS-012-AA; Code_IPC: SOIC127P600-8; ComponentLink1Description: LMH0002 Datasheet; ComponentLink1URL: http://www.national.com/ds/LM/LMH0002.pdf; ComponentLink2Description: LMH0002 Web Page; ComponentLink2URL: http://www.national.com/pf/LM/LMH0002.html; ComponentLink3Description: M08A Package Page; ComponentLink3URL: http://www.national.com/packaging/folders/m08a.html
footprint M08A_N (SOIC, 8-Leads, Body 4.9x3.9mm, Pitch 1.27mm, IPC Medium Density)
footprint M08A_L (SOIC, 8-Leads, Body 4.9x3.9mm, Pitch 1.27mm, IPC High Density)
footprint M08A_M (SOIC, 8-Leads, Body 4.9x3.9mm, Pitch 1.27mm, IPC Low Density)
pins: 1 SDI (in), 2 ~{SDI} (in), 3 VEE (power), 4 RREF (in), 5 VCC (power), 6 SD/~{HD} (in), 7 ~{SDO} (out), 8 SDO (out)

## LMH0002MA/NOPB
designator U?
SMPTE 292M / 259M Serial Digital Cable Driver, 8-pin Narrow SOIC, Pb-Free; PartNumber: LMH0002MA/NOPB; Manufacturer: National Semiconductor; PackageTopMarking: NSZXTT*L002; PowerWise: N; CompType: Interface IC; Published: 1-Mar-2010; DatasheetVersion: Aug-2008; PackageVersion: revM, May-2009; PackageReference: M08A; Publisher: Altium Limited; PackageDescription: SOIC Narrow, 4.9 x 3.9 x 1.45mm, 8 Lead, 1.27mm Pitch; Supplier 1: Digi-Key; Supplier Part Number 1: LMH0002MA-ND; Supplier 2: Farnell; Supplier Part Number 2: 1654560; RoHS: Y; PinCount: 8; Code_JEDEC: MS-012-AA; Code_IPC: SOIC127P600-8; ComponentLink1Description: LMH0002 Datasheet; ComponentLink1URL: http://www.national.com/ds/LM/LMH0002.pdf; ComponentLink2Description: LMH0002 Web Page; ComponentLink2URL: http://www.national.com/pf/LM/LMH0002.html; ComponentLink3Description: M08A Package Page; ComponentLink3URL: http://www.national.com/packaging/folders/m08a.html
footprint M08A_N (SOIC, 8-Leads, Body 4.9x3.9mm, Pitch 1.27mm, IPC Medium Density)
footprint M08A_L (SOIC, 8-Leads, Body 4.9x3.9mm, Pitch 1.27mm, IPC High Density)
footprint M08A_M (SOIC, 8-Leads, Body 4.9x3.9mm, Pitch 1.27mm, IPC Low Density)
pins: 1 SDI (in), 2 ~{SDI} (in), 3 VEE (power), 4 RREF (in), 5 VCC (power), 6 SD/~{HD} (in), 7 ~{SDO} (out), 8 SDO (out)

## LMH0002MAX
designator U?
SMPTE 292M / 259M Serial Digital Cable Driver, 8-pin Narrow SOIC; PartNumber: LMH0002MAX; Manufacturer: National Semiconductor; PackageTopMarking: NSZXTT*L002; PowerWise: N; CompType: Interface IC; Published: 1-Mar-2010; DatasheetVersion: Aug-2008; PackageVersion: revM, May-2009; PackageReference: M08A; Publisher: Altium Limited; PackageDescription: SOIC Narrow, 4.9 x 3.9 x 1.45mm, 8 Lead, 1.27mm Pitch; RoHS: N; PinCount: 8; Code_JEDEC: MS-012-AA; Code_IPC: SOIC127P600-8; ComponentLink1Description: LMH0002 Datasheet; ComponentLink1URL: http://www.national.com/ds/LM/LMH0002.pdf; ComponentLink2Description: LMH0002 Web Page; ComponentLink2URL: http://www.national.com/pf/LM/LMH0002.html; ComponentLink3Description: M08A Package Page; ComponentLink3URL: http://www.national.com/packaging/folders/m08a.html
footprint M08A_N (SOIC, 8-Leads, Body 4.9x3.9mm, Pitch 1.27mm, IPC Medium Density)
footprint M08A_L (SOIC, 8-Leads, Body 4.9x3.9mm, Pitch 1.27mm, IPC High Density)
footprint M08A_M (SOIC, 8-Leads, Body 4.9x3.9mm, Pitch 1.27mm, IPC Low Density)
pins: 1 SDI (in), 2 ~{SDI} (in), 3 VEE (power), 4 RREF (in), 5 VCC (power), 6 SD/~{HD} (in), 7 ~{SDO} (out), 8 SDO (out)

## LMH0002MAX/NOPB
designator U?
SMPTE 292M / 259M Serial Digital Cable Driver, 8-pin Narrow SOIC, Pb-Free; PartNumber: LMH0002MAX/NOPB; Manufacturer: National Semiconductor; PackageTopMarking: NSZXTT*L002; PowerWise: N; CompType: Interface IC; Published: 1-Mar-2010; DatasheetVersion: Aug-2008; PackageVersion: revM, May-2009; PackageReference: M08A; Publisher: Altium Limited; PackageDescription: SOIC Narrow, 4.9 x 3.9 x 1.45mm, 8 Lead, 1.27mm Pitch; Supplier 1: Digi-Key; Supplier Part Number 1: LMH0002MAX-ND; RoHS: Y; PinCount: 8; Code_JEDEC: MS-012-AA; Code_IPC: SOIC127P600-8; ComponentLink1Description: LMH0002 Datasheet; ComponentLink1URL: http://www.national.com/ds/LM/LMH0002.pdf; ComponentLink2Description: LMH0002 Web Page; ComponentLink2URL: http://www.national.com/pf/LM/LMH0002.html; ComponentLink3Description: M08A Package Page; ComponentLink3URL: http://www.national.com/packaging/folders/m08a.html
footprint M08A_N (SOIC, 8-Leads, Body 4.9x3.9mm, Pitch 1.27mm, IPC Medium Density)
footprint M08A_L (SOIC, 8-Leads, Body 4.9x3.9mm, Pitch 1.27mm, IPC High Density)
footprint M08A_M (SOIC, 8-Leads, Body 4.9x3.9mm, Pitch 1.27mm, IPC Low Density)
pins: 1 SDI (in), 2 ~{SDI} (in), 3 VEE (power), 4 RREF (in), 5 VCC (power), 6 SD/~{HD} (in), 7 ~{SDO} (out), 8 SDO (out)

## LMH0002SQ
designator U?
SMPTE 292M / 259M Serial Digital Cable Driver, 16-pin LLP; PartNumber: LMH0002SQ; Manufacturer: National Semiconductor; PackageTopMarking: NS*UZXYTT*L002; PowerWise: N; CompType: Interface IC; Published: 4-Dec-2008; DatasheetVersion: Aug-2008; PackageVersion: revA, Dec-2005; PackageReference: SQB16A; Publisher: Altium Limited; PackageDescription: LLP, Plastic, Quad, 4 x 4 x 0.8mm, 16 Lead, 0.65mm Pitch, No Pullback; RoHS: N; PinCount: 16; ComponentLink1Description: LMH0002 Datasheet; ComponentLink1URL: http://www.national.com/ds/LM/LMH0002.pdf; ComponentLink2Description: LMH0002 Web Page; ComponentLink2URL: http://www.national.com/pf/LM/LMH0002.html; ComponentLink3Description: SQB16A Package Page; ComponentLink3URL: http://www.national.com/packaging/folders/sqb16a.html
footprint SQB16A (QFN, 16-Leads, Body 4x4mm, Pitch 0.65mm, NSC Recommended)
pins: 1 SDI (in), 2 ~{SDI} (in), 3 VEE (power), 4 RREF (in), 5 NC, 6 NC, 7 NC, 8 NC, 9 VCC (power), 10 SD/~{HD} (in), 11 ~{SDO} (out), 12 SDO (out), 13 NC, 14 NC, 15 NC, 16 NC, 17 DAP (power)